# Altium schematic symbol library PHE426DJ4120JR05.SchLib: 1 symbol
Pins are listed as number, name and electrical type; pins without a type are passive.

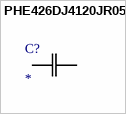
[diagram p0: symbol PHE426DJ4120JR05]

## PHE426DJ4120JR05
designator C?
No Description Available; Mfr_Name: Kemet
footprint CAP_PHE_426_DJ_4100-5150_KEM
pins: 1, 2